# Altium schematic symbol library LTC6820.SchLib: 2 symbols
Pins are listed as number, name and electrical type; pins without a type are passive.

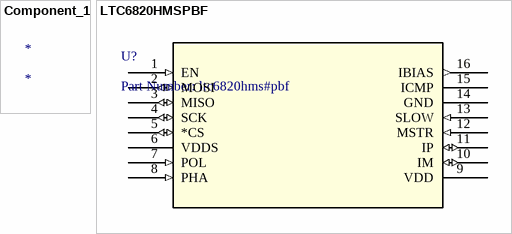
[diagram p0: symbols Component_1 to LTC6820HMSPBF]

## Component_1
designator *

## LTC6820HMSPBF
designator U?, comment Part Number: ltc6820hms#pbf
No Description Available; Vendor: Linear Technology; Manufacturer_Part_Number: ltc6820hms#pbf; Copyright: Copyright (C) 2018 Accelerated Designs. All rights reserved; RefDes: RefDes; Type: DEV; Value: Value
footprint MSOP-16_MS
pins: 1 EN (in), 2 MOSI (io), 3 MISO (io), 4 SCK (io), 5 *CS (io), 6 VDDS (power), 7 POL (in), 8 PHA (in), 9 VDD (power), 10 IM (io), 11 IP (io), 12 MSTR (in), 13 SLOW (in), 14 GND (power), 15 ICMP, 16 IBIAS (out)